# Altium schematic symbol library L-Stick.SchLib: 29 symbols
Pins are listed as number, name and electrical type; pins without a type are passive.

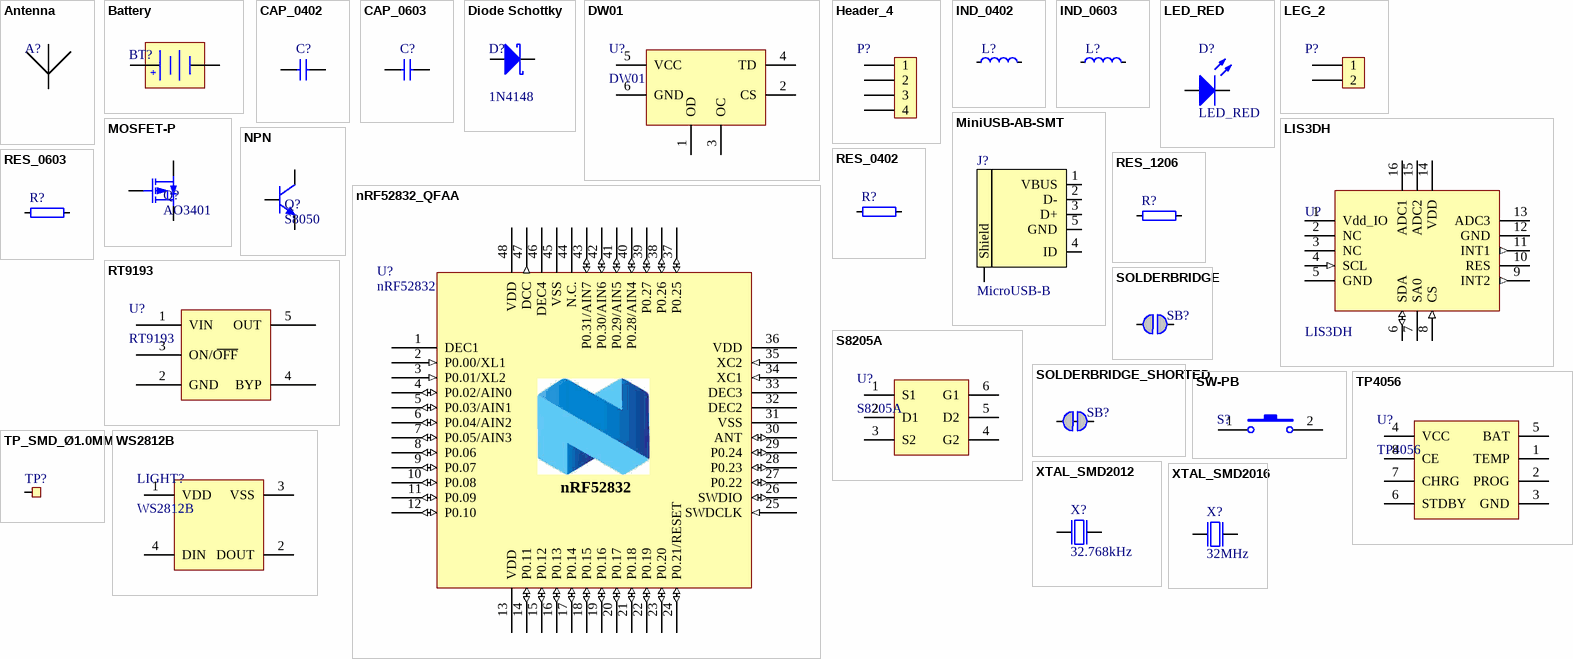
[diagram p0: symbols Antenna to XTAL_SMD2016]

## Antenna
designator A?  (no BOM)
2.45 GHz PCB antenna
footprint Antenna
pins: 1

## Battery
designator BT?, comment XH2.54_2PIN  (value not drawn)
Multicell Battery Base; Value: XH2.54_2PIN
footprint XH2.54_2PIN (Battery; 2 Leads)
pins: 1 +, 2 -

## CAP_0402
designator C?
Capacitor
footprint 0402C
pins: 1, 2

## CAP_0603
designator C?
Capacitor
footprint 0603C
pins: 1, 2

## Diode Schottky
designator D?, comment 1N4148
Diode Schottky; Value: 1N4148
footprint SOD-523
pins: 1 A, 2 K

## DW01
designator U?
Chip, DW01, Battery Protection IC; Value: DW01
footprint SOT23-6
pins: 1 OD, 2 CS, 3 OC, 4 TD, 5 VCC, 6 GND

## Header_4
designator P?, comment Header_4_2.54  (value not drawn)
Value: Header_4_2.54
footprint HEADER_4
pins: 1, 2, 3, 4

## IND_0402
designator L?
Inductor
footprint 0402L
pins: 1, 2

## IND_0603
designator L?
Inductor
footprint 0603L
pins: 1, 2

## LED_RED
designator D?
Value: LED_RED
footprint LED_RED_0603
pins: 1 A, 2 K

## LEG_2
designator P?  (no BOM)
External Solder Pad
footprint LEG_2
pins: 1, 2

## LIS3DH
designator U?
Chip, LIS3DH, 3-axis - ±2g/±4g/±8g/±16g digital output femto accelerometer; Value: LIS3DH
footprint LGA-16
pins: 1 Vdd_IO (power), 2 NC (power), 3 NC (power), 4 SCL (in), 5 GND (power), 6 SDA (io), 7 SA0 (power), 8 CS (in), 9 INT2 (out), 10 RES (power), 11 INT1 (out), 12 GND, 13 ADC3 (power), 14 VDD (power), 15 ADC2 (power), 16 ADC1 (power)

## MiniUSB-AB-SMT
designator J?, comment MicroUSB-B
MicroUSB-B-SMT; Value: MicroUSB-B
footprint USB-Micro-B-RA-SMD-PiP
pins: 1 VBUS (power), 2 D-, 3 D+, 4 ID, 5 GND (power), 6 Shield (power)

## MOSFET-P
designator Q?, comment AO3401
P-MOS, AO3401, P-Channel MOSFET; Value: AO3401
footprint SOT-23A
pins: 1 G, 2 S, 3 D

## NPN
designator Q?, comment S8050
NPN, S8050, NPN Bipolar Transistor; Value: S8050
footprint SOT-23A
pins: 1 B, 2 E, 3 C

## nRF52832_QFAA
designator U?, comment nRF52832
Chip, nRF52832, Multi-protocol Bluetooth Low Energy, ANT and 2.4GHz proprietary system-on-chip; Value: nRF52832
footprint QFN40P600X600X90-48N
pins: 1 DEC1 (power), 2 P0.00/XL1 (in), 3 P0.01/XL2 (in), 4 P0.02/AIN0 (io), 5 P0.03/AIN1 (io), 6 P0.04/AIN2 (io), 7 P0.05/AIN3 (io), 8 P0.06 (io), 9 P0.07 (io), 10 P0.08 (io), 11 P0.09 (io), 12 P0.10 (io), 13 VDD (power), 14 P0.11 (io), 15 P0.12 (io), 16 P0.13 (io), 17 P0.14 (io), 18 P0.15 (io), 19 P0.16 (io), 20 P0.17 (io), 21 P0.18 (io), 22 P0.19 (io), 23 P0.20 (io), 24 P0.21/RESET (io), 25 SWDCLK (in), 26 SWDIO (io), 27 P0.22 (io), 28 P0.23 (io), 29 P0.24 (io), 30 ANT (io), 31 VSS (power), 32 DEC2 (power), 33 DEC3 (power), 34 XC1 (in), 35 XC2 (in), 36 VDD (power), 37 P0.25 (io), 38 P0.26 (io), 39 P0.27 (io), 40 P0.28/AIN4 (io), 41 P0.29/AIN5 (io), 42 P0.30/AIN6 (io), 43 P0.31/AIN7 (io), 44 N.C. (power), 45 VSS (power), 46 DEC4 (power), 47 DCC (out), 48 VDD (power), 49 GND (power) hidden to GND

## RES_0402
designator R?
Resistor
footprint 0402R
pins: 1, 2

## RES_0603
designator R?
Resistor
footprint 0603R
pins: 1, 2

## RES_1206
designator R?
Resistor
footprint 1206R
pins: 1, 2

## RT9193
designator U?
Chip, RT9193, LDO Regulator; Value: RT9193
footprint SOT23-5
pins: 1 VIN, 2 GND, 3 ON/OFF, 4 BYP, 5 OUT

## S8205A
designator U?
Chip, S8205A; Value: S8205A
footprint SOT23-6
pins: 1 S1, 2 D1, 3 S2, 4 G2, 5 D2, 6 G1

## SOLDERBRIDGE
designator SB?, comment Solderbridge  (value not drawn)  (no BOM)
Value: Solderbridge
footprint Solderbridge
pins: 1, 2

## SOLDERBRIDGE_SHORTED
designator SB?, comment Solderbridge  (value not drawn)  (net tie, no BOM)
Shorted Solderbridge; Value: Solderbridge
footprint Solderbridge_Shorted
pins: 1, 2

## SW-PB
designator S?, comment Side Button  (value not drawn)
Value: Side Button
footprint SW_SIDE
pins: 1, 2

## TP4056
designator U?
Chip, TP4056, Battery charging chip; Value: TP4056
footprint SOIC8E
pins: 1 TEMP, 2 PROG, 3 GND, 4 VCC, 5 BAT, 6 STDBY, 7 CHRG, 8 CE

## TP_SMD_Ø1.0MM
designator TP?, comment Ø1.5mm,SMD  (value not drawn)  (no BOM)
1.0mm circular SMD testpad; Value: Ø1.5mm,SMD
footprint TP_SMD
pins: 1

## WS2812B
designator LIGHT?
Integrated RGB LED; Value: WS2812B
footprint WS2812B
pins: 1 VDD, 2 DOUT, 3 VSS, 4 DIN

## XTAL_SMD2012
designator X?, comment 32.768kHz
XTAL SMD 2012, 32.768kHz, 9pF, ±20ppm; Value: 32.768kHz
footprint XTAL_2012
pins: 1 inp, 2 out

## XTAL_SMD2016
designator X?, comment 32MHz
XTAL SMD 2016, 32MHz, Cl=8pF, Tot: ±40ppm; Value: 32MHz
footprint XTAL_2016
pins: 1 inp, 2 GND hidden to GND, 3 out, 4 GND hidden to GND